# Altium schematic symbol library Cellar Watchdog.SchLib: 75 symbols (part 2 of 2)
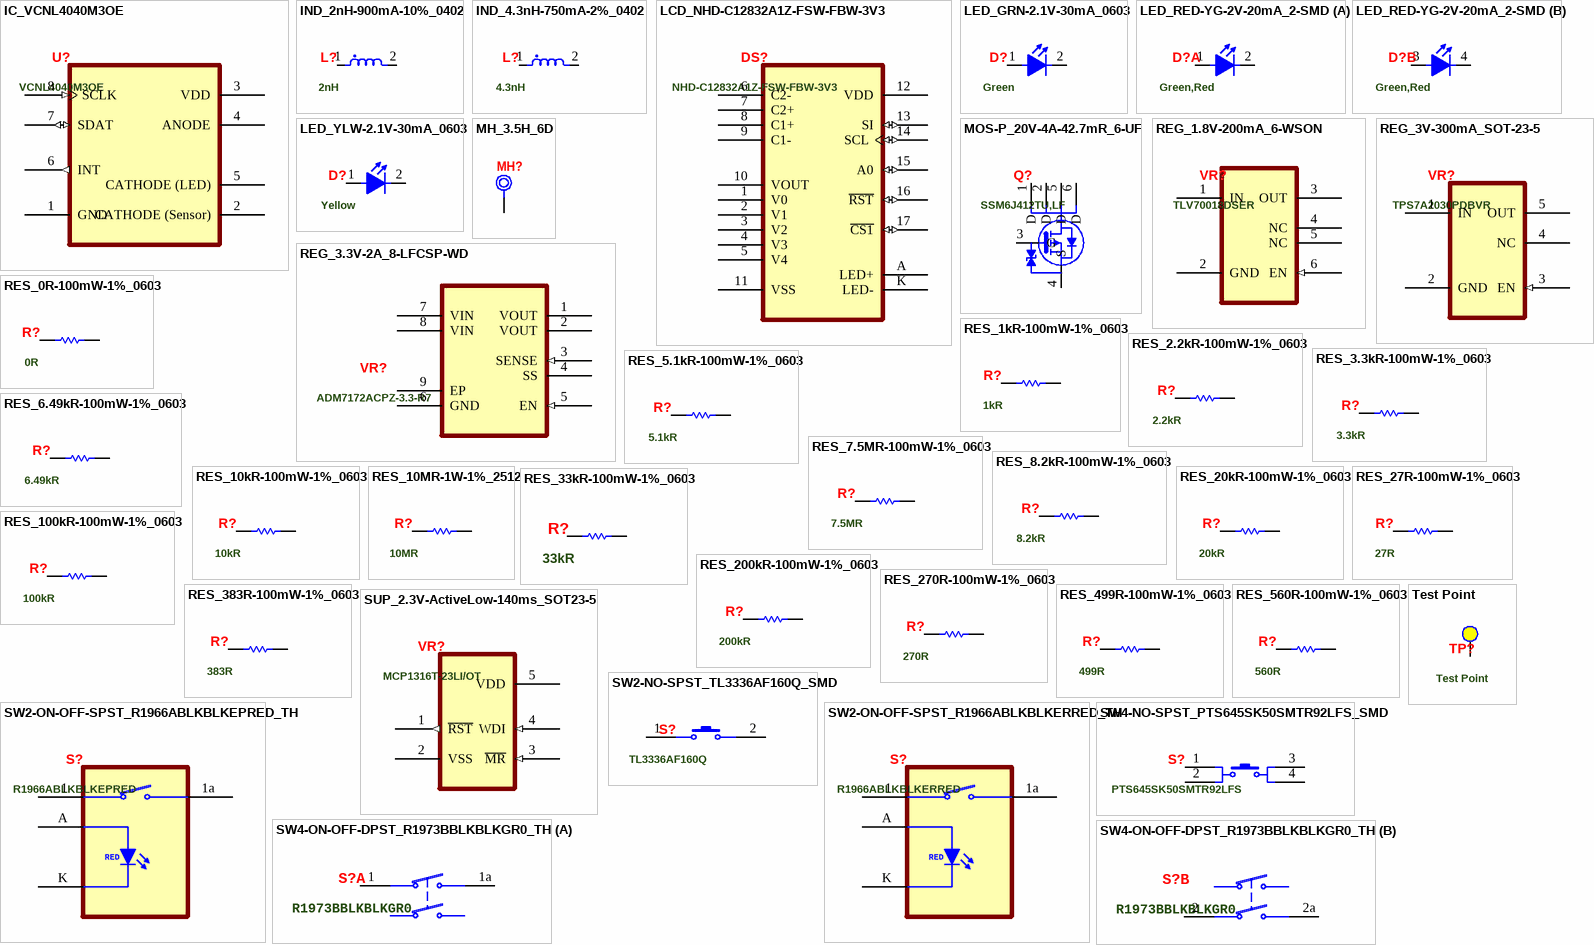
[diagram p3: symbols IC_VCNL4040M3OE to Test Point]

## LCD_NHD-C12832A1Z-FSW-FBW-3V3
designator DS?, comment NHD-C12832A1Z-FSW-FBW-3V3
Graphic LCD Display Module Transflective Black (White - Inverted) FSTN - Film Super-Twisted Nematic SPI 128 x 32; Manufacturer: Newhaven Display; Contrast Ratio: 6:1; Backlight Type: LED; Touchscreen: No; Resolution (height): 32pixel; Resolution (width): 128pixel; Supplier 1: Digi-Key; Manufacturer Part Number: NHD-C12832A1Z-FSW-FBW-3V3; RoHS: Yes; Category: LCD, OLED, Graphic Displays; Stock 1: 5801; Pricing 1: 1=12.78000, 5=12.01600, 10=11.24800, 50=10.60900, 100=10.09780, 250=9.58656, 500=9.20310 (USD); Mount: Through Hole; Number of Pins: 17; Min Operating Temperature: -20°C; Max Operating Temperature: 70°C; Background Color: Black; Packaging: Bulk; Package Quantity: 100; Interface: SPI; Supplier 2: Mouser; Supplier Part Number 2: 763-C12832A1ZFSWFBW3; Supplier Part Number 1: NHD-C12832A1Z-FSW-FBW-3V3-ND; ComponentLink2Description: Datasheet; ComponentLink2URL: C:\Users\Public\Documents\Altium\Projects\Cellar_Watchdog\Docs\LCD Display\NHD-C12832A1Z-FSW-FBW-3V3.pdf; ComponentLink3Description: Controller Datasheet; ComponentLink3URL: C:\Users\Public\Documents\Altium\Projects\Cellar_Watchdog\Docs\LCD Display\ST7565R.pdf
footprint LCD_NHD-C12832A1Z-FSW-FBW-3V3 (LCH Newhaven Display NHD-C12832A1Z-FSW-FBW-3V3)
pins: 1 V0 (power) "0.1uF - 1uF Capacitor to Vss", 2 V1 (power) "0.1uF - 1uF Capacitor to Vss", 3 V2 (power) "0.1uF - 1uF Capacitor to Vss", 4 V3 (power) "0.1uF - 1uF Capacitor to Vss", 5 V4 (power) "0.1uF - 1uF Capacitor to Vss", 6 C2- (power) "Connect 1uF - 2.2uF Capacitor to C2+ (pin 7)", 7 C2+ (power) "Connect 1uF - 2.2uF Capacitor to C2- (pin 6)", 8 C1+ (power) "Connect 1uF - 2.2uF Capacitor to C1- (pin 9)", 9 C1- (power) "Connect 1uF - 2.2uF Capacitor to C1+ (pin 8)", 10 VOUT (power) "Connect 1uF - 2.2uF Capacitor to Vss (pin11)", 11 VSS (power) "Ground", 12 VDD (power) "Supply Voltage for LCD and Logic (+3V)", 13 SI (io) "Serial Data", 14 SCL (io) "Serial Clock", 15 A0 (io) "Register Select. A0=0: Instruction, A0=1: Data", 16 ~{RST} (io) "Active Low Reset Signal", 17 ~{CS1} (io) "Active Low Chip Select Signal", A LED+ (power) "Backlight Anode (+3V)", K LED- (power) "Backlight Cathode (Ground)"

## LED_GRN-2.1V-30mA_0603
designator D?, comment Green
Green 571nm LED Indication - Discrete 2V 0603 (1608 Metric); Manufacturer: Vishay Lite-On; Manufacturer Part Number: LTST-C191KGKT; Lens Color: Colorless; Luminous Intensity: 35mcd; Viewing Angle: 130°; Test Current: 20mA; Lens Transparency: Clear; Wavelength: 574nm; Lens Style: Rectangular,Colorless; Forward Current: 30mA; Number of Elements: 1; Power Dissipation: 75mW; Reverse Voltage: 5V; Supplier 1: Digi-Key; RoHS: Yes; Category: Uncategorized; Stock 1: 3090195; Pricing 1: 1=0.26000, 10=0.14100, 100=0.06560, 500=0.06060, 1000=0.04747, 2000=0.04646 (USD); Mounting Technology: Surface Mount; Case/Package: 0603; Pins: 2; Color: Green; Case Code (Metric): 1608; Case Code (Imperial): 0603; Min Operating Temperature: -55°C; Max Operating Temperature: 85°C; Packaging: Tape and Reel; Package Quantity: 1; Forward Voltage: 2V; Dominant Wavelength: 571nm; Illumination Color: Green; Number of LEDs: 1; Power Rating: 75mW; Max Power Dissipation: 75mW; Length: 1.6mm; Width: 0.8mm; Height: 0.55mm; Depth: 0.8mm; Radiation Hardening: No; RoHS Compliant: Yes; Lead Free: Lead Free; ComponentLink1URL: C:\Users\Public\Documents\Altium\Projects\Cellar_Watchdog\Docs\LED\LTST-C191KSKT.PDF; ComponentLink1Description: Datasheet; Supplier 2: Mouser; Supplier Part Number 2: 859-LTST-C191KGKT; Supplier Part Number 1: 160-1446-6-ND
footprint LED_GRN_0603 (LED 0603 (1608 Metric) Green)
simulation model diode (Model Description)
pins: 1 A, 2 K

## LED_RED-YG-2V-20mA_2-SMD
designator D?, comment Green,Red
Green, Red 565nm Green, 635nm Red LED Indication - Discrete 2V Green, 2V Red 2-SMD, No Lead; Manufacturer: Dialight; Manufacturer Part Number: 5988510207F; Lens Color: Colorless,Clear; Luminous Intensity: 60mcd; Forward Current: 20mA; Viewing Angle: 160°; Forward Voltage: 1.8V; Lens Style: Domed,Round,Diffused,Colorless,Clear; Lens Transparency: Clear; Number of Elements: 2; Power Dissipation: 48mW; Reverse Voltage: 5V; Lens Size: 1mm; Supplier 1: Digi-Key; RoHS: Yes; Category: LEDs; Stock 1: 52868; Pricing 1: 1=0.54000, 10=0.33400, 100=0.19190, 1000=0.15017 (USD); Mounting Technology: Surface Mount; Case/Package: SMD/SMT; Pins: 4; Color: Green,Red; Min Operating Temperature: -40°C; Max Operating Temperature: 100°C; Packaging: Tape and Reel; Package Quantity: 3000; Series: 598; Illumination Color: Green,Red; Test Current: 20mA; Dominant Wavelength: 635nm; Wavelength: 635nm; Number of LEDs: 2; Length: 1mm; Width: 1.5mm; Height: 1mm; Depth: 3.2mm; Radiation Hardening: No; Reach SVHC Compliant: Yes; RoHS Compliant: Yes; Lead Free: Lead Free; ComponentLink1URL: C:\Users\Public\Documents\Altium\Projects\Cellar_Watchdog\Docs\LED\Dialight_CBI_data_598-biRA_Apr2018.pdf; ComponentLink1Description: Datasheet; Supplier 2: Mouser; Supplier Part Number 1: 350-2072-1-ND; Supplier Part Number 2: 645-598-8510-207F
footprint LED_5988510207F (LED Red - Yellow/Green Dialight Right Angle view)
part A pins: 1 A, 2 K
part B pins: 3 A, 4 K

## LED_YLW-2.1V-30mA_0603
designator D?, comment Yellow
Yellow 591nm LED Indication - Discrete 2.1V 0603 (1608 Metric); Manufacturer: Vishay Lite-On; Manufacturer Part Number: LTST-C191KSKT; Lens Color: Colorless; Viewing Angle: 130°; Lens Style: Diffused,Colorless,Rectangular,Clear; Luminous Intensity: 180mcd; Forward Current: 30mA; Forward Voltage: 2.4V; Power Rating: 75mW; Dominant Wavelength: 597nm; Test Current: 20mA; Lens Transparency: Clear; Number of Elements: 1; Wavelength: 588nm; Reverse Voltage: 5V; Supplier 1: Digi-Key; RoHS: Yes; Category: LEDs; Stock 1: 1434021; Pricing 1: 1=0.28000, 10=0.15000, 100=0.06990, 500=0.06450, 1000=0.05052, 2000=0.04945 (USD); Mounting Technology: Surface Mount; Case/Package: 0603; Pins: 2; Color: Yellow; Case Code (Metric): 1608; Case Code (Imperial): 0603; Min Operating Temperature: -55°C; Max Operating Temperature: 85°C; Package Quantity: 1; Packaging: Tape and Reel; Illumination Color: Yellow; Power Dissipation: 75mW; Number of LEDs: 1; Length: 1.6mm; Width: 0.8mm; Height: 0.55mm; Depth: 0.8mm; Radiation Hardening: No; RoHS Compliant: Yes; Lead Free: Lead Free; ComponentLink1URL: C:\Users\Public\Documents\Altium\Projects\Cellar_Watchdog\Docs\LED\LTST-C191KSKT.PDF; ComponentLink1Description: Datasheet; Supplier 2: Mouser; Supplier Part Number 1: 160-1448-1-ND; Supplier Part Number 2: 859-LTST-C191KSKT
footprint LED_YLW_0603 (LED 0603 (1608 Metric) Yellow)
simulation model diode (Model Description)
pins: 1 A, 2 K

## MH_3.5H_6D
designator MH?, comment Plated Through-Hole  (value not drawn)  (no BOM)
Hole Plated 3.5mm ID / 6mm OD
footprint PTH_3.5MM (Plated Through Hole 3.5mm Diam)
pins: 1

## MOS-P_20V-4A-42.7mR_6-UF
designator Q?, comment SSM6J412TU,LF
P-Channel 20 V 4A (Ta) 1W (Ta) Surface Mount UF6; Manufacturer: Toshiba; Supplier 1: Digi-Key; Manufacturer Part Number: SSM6J412TU,LF; RoHS: No; Category: Uncategorized; Stock 1: 8000; Pricing 1: 1=0.37000, 10=0.29600, 100=0.20160, 500=0.15120, 1000=0.11340 (USD); Supplier 2: Mouser; Supplier Part Number 1: SSM6J412TULFCT-ND; Supplier Part Number 2: 757-SSM6J412TU,LF; ComponentLink1Description: Datasheet; ComponentLink1URL: C:\Users\Public\Documents\Altium\Projects\Cellar_Watchdog\Docs\MOSFET\SSM6J412TU_datasheet_en_20140301.pdf
footprint MOS_SOTFL65P210X75-6N (6-SMD Package)
simulation model PMOSFET_Level1 (Model Description)
pins: 1 D, 2 D, 3 G, 4 S, 5 D, 6 D

## REG_1.8V-200mA_6-WSON
designator VR?, comment TLV70018DSER
Linear Voltage Regulator IC Positive Fixed 1 Output 200mA 6-WSON (1.5x1.5); Manufacturer: Texas Instruments; Output Voltage: 1.8V; Dropout Voltage: 175mV; Number of Outputs: 1; Max Power Dissipation: 555mW; Max Input Voltage: 5.5V; Min Input Voltage: 2V; Min Current Limit: 220mA; Output Voltage Accuracy: 2%; Quiescent Current: 30uA; Supplier 1: Digi-Key; Manufacturer Part Number: TLV70018DSER; RoHS: Yes; Category: Voltage Regulators - Linear; Stock 1: 24574; Pricing 1: 1=0.55000, 10=0.46900, 25=0.43760, 100=0.35020, 250=0.32520, 500=0.27518, 1000=0.21264 (USD); Case/Package: WFDFN; Number of Pins: 6; Min Operating Temperature: -40°C; Max Operating Temperature: 125°C; Packaging: Tape and Reel; Output Current: 200mA; Package Quantity: 3000; Max Output Current: 200mA; Number of Regulators: 1; Polarity: Positive; Power Dissipation: 555mW; Accuracy: 2%; Max Output Voltage: 1.8V; Min Output Voltage: 1.8V; Output Type: Fixed; Series: -; Lead Free: Lead Free; RoHS Compliant: Yes; ComponentLink2URL: C:\Users\Public\Documents\Altium\Projects\Cellar_Watchdog\Docs\Voltage Regulator\tlv700.pdf; ComponentLink2Description: Datasheet; Supplier 2: Mouser; Supplier Part Number 1: 296-39277-1-ND; Supplier Part Number 2: 595-TLV70018DSER
footprint REG_SON50P150X150X80-6N (6-WSON Package)
pins: 1 IN (power) "Input pin", 2 GND (power) "Ground", 3 OUT (power) "Regulated output voltage", 4 NC "No connection", 5 NC "No connection", 6 EN (in) "Enable pin"

## REG_3.3V-2A_8-LFCSP-WD
designator VR?, comment ADM7172ACPZ-3.3-R7
Linear Voltage Regulator IC Positive Fixed 1 Output 2A 8-LFCSP-WD (3x3); Manufacturer: Analog Devices; Output Voltage: 3.3V; Dropout Voltage: 172mV; Number of Regulators: 1; Min Current Limit: 2.4A; Quiescent Current: 700uA; Max Input Voltage: 6.5V; Min Input Voltage: 2.3V; Supplier 1: Digi-Key; Manufacturer Part Number: ADM7172ACPZ-3.3-R7; RoHS: Yes; Category: Voltage Regulators - Linear; Stock 1: 4322; Pricing 1: 1=6.80000, 10=6.10500, 25=5.77160, 100=5.00210, 250=4.74560, 500=4.25824 (USD); Mount: Surface Mount; Number of Pins: 8; Min Operating Temperature: -40°C; Max Operating Temperature: 125°C; Packaging: Tape and Reel; Output Current: 2A; Package Quantity: 1500; Polarity: Positive; Max Output Current: 2A; Number of Outputs: 1; Output Type: Fixed; Lead Free: Contains Lead; RoHS Compliant: Yes; ComponentLink2URL: C:\Users\Public\Documents\Altium\Projects\Cellar_Watchdog\Docs\Voltage Regulator\ADM7172.pdf; ComponentLink2Description: Datasheet; Supplier 2: Mouser; Supplier Part Number 1: 505-ADM7172ACPZ-3.3-R7CT-ND; Supplier Part Number 2: 584-ADM7172ACPZ3.3R7
footprint REG_SON50P300X300X80-9N (LFCSP-8 Package)
pins: 1 VOUT (power) "Regulated output voltage", 2 VOUT (power) "Regulated output voltage", 3 SENSE (in) "Sense input", 4 SS "Soft Start", 5 EN (in) "Regulator enable", 6 GND (power) "Ground", 7 VIN (power) "Regulator input supply", 8 VIN (power) "Regulator input supply", 9 EP (power) "Exposed Pad"

## REG_3V-300mA_SOT-23-5
designator VR?, comment TPS7A2030PDBVR
Linear Voltage Regulator IC Positive Fixed 1 Output 300mA SOT-23-5; Manufacturer: Texas Instruments; Supplier 1: Digi-Key; Manufacturer Part Number: TPS7A2030PDBVR; RoHS: Yes; Category: Voltage Regulators - Linear; Stock 1: 34133; Pricing 1: 1=0.49000, 10=0.41700, 25=0.38960, 100=0.31160, 250=0.28936, 500=0.24486, 1000=0.18921 (USD); RoHS Compliant: Yes; Supplier 2: Mouser; ComponentLink1Description: Datasheet; ComponentLink1URL: C:\Users\Public\Documents\Altium\Projects\Cellar_Watchdog\Docs\Voltage Regulator\tps7a20.pdf; Supplier Part Number 1: 296-TPS7A2030PDBVRCT-ND; Supplier Part Number 2: 595-TPS7A2030PDBVR
footprint REG_SOT95P280X145-5N (SOT-23-5 Package)
pins: 1 IN (power) "Input pin", 2 GND (power) "Ground", 3 EN (in) "Enable pin", 4 NC "No connection", 5 OUT (power) "Regulated output voltage"

## RES_0R-100mW-1%_0603
designator R?, comment 0R
0 Ohms Jumper Chip Resistor 0603 (1608 Metric) Moisture Resistant Thick Film; Manufacturer: Yageo; Manufacturer Part Number: RC0603FR-070RL; Power Rating: 100mW; Tolerance: 1%; Voltage Rating (DC): 50V; Temperature Coefficient: 200ppm/°C; Current Rating: 1A; Working Voltage: 75V; Supplier 1: Digi-Key; RoHS: Yes; Category: Chip SMD Resistors; Stock 1: 4158752; Pricing 1: 1=0.10000, 10=0.01800, 25=0.01320, 50=0.01000, 100=0.00730, 250=0.00560, 500=0.00448, 1000=0.00329 (USD); Case/Package: 0603; Number of Pins: 2; Contact Plating: Tin,Matte; Case Code (Metric): 1608; Case Code (Imperial): 0603; Min Operating Temperature: -55°C; Max Operating Temperature: 155°C; Resistance: 0R; Packaging: Tape and Reel; Resistor Type: Thick Film; Package Quantity: 5000; Voltage Rating: 50V; Number of Terminations: 2; Termination: SMD/SMT; Max Power Dissipation: 100mW; Features: Moisture Resistant; Series: RC; Construction: Rectangular; Resistance Tolerance: 1%; Technology: THICK FILM; Length: 1.6mm; Width: 0.8mm; Height: 0.45mm; Depth: 0.8mm; Radiation Hardening: No; Reach SVHC Compliant: Yes; Lead Free: Lead Free; RoHS Compliant: Yes; Military Standard: Not; ComponentLink7URL: C:\Users\Public\Documents\Altium\Projects\Cellar_Watchdog\Docs\Resistor\PYu-RC_Group_51_RoHS_L_12.pdf; ComponentLink7Description: Datasheet; Supplier 2: Mouser; Supplier Part Number 2: 603-RC0603FR-070RL; Supplier Part Number 1: 311-0.0HRCT-ND
simulation model R_Resistor_Default (Model Description)
footprint RES_0603 (Resistor SMD 0603 (Metric 1608))
pins: 1, 2

## RES_1kR-100mW-1%_0603
designator R?, comment 1kR
1 kOhms ±1% 0.1W, 1/10W Chip Resistor 0603 (1608 Metric) Moisture Resistant Thick Film; Manufacturer: Yageo; Manufacturer Part Number: RC0603FR-071KL; Temperature Coefficient: 100ppm/°C; Power Rating: 100mW; Voltage Rating: 50V; Supplier 1: Digi-Key; RoHS: Yes; Category: Chip SMD Resistors; Stock 1: 31324809; Pricing 1: 1=0.10000, 10=0.02100, 100=0.00850, 1000=0.00383, 2500=0.00332 (USD); Case/Package: 0603; Contact Plating: Tin,Matte; Case Code (Imperial): 0603; Case Code (Metric): 1608; Min Operating Temperature: -55°C; Max Operating Temperature: 155°C; Tolerance: 1%; Resistance: 1kR; Resistor Type: Thick Film; Packaging: Tape and Reel; Termination: SMD/SMT; Features: Moisture Resistant; Series: RC; Max Power Dissipation: 100mW; Number of Terminations: 2; Technology: THICK FILM; Resistance Tolerance: 1%; Construction: Rectangular; Length: 1.6mm; Height: 0.45mm; Depth: 0.8mm; Radiation Hardening: No; Reach SVHC Compliant: Yes; Lead Free: Lead Free; Military Standard: Not; RoHS Compliant: Yes; Supplier 2: Mouser; Supplier Part Number 2: 603-RC0603FR-071KL; Supplier Part Number 1: 311-1.00KHRCT-ND; ComponentLink1Description: Datasheet; ComponentLink1URL: C:\Users\Public\Documents\Altium\Projects\Cellar_Watchdog\Docs\Resistor\PYu-RC_Group_51_RoHS_L_12.pdf
simulation model R_Resistor_Default (Model Description)
footprint RES_0603 (Resistor SMD 0603 (Metric 1608))
pins: 1, 2

## RES_2.2kR-100mW-1%_0603
designator R?, comment 2.2kR
2.2 kOhms ±1% 0.1W, 1/10W Chip Resistor 0603 (1608 Metric) Moisture Resistant Thick Film; Manufacturer: Yageo; Manufacturer Part Number: RC0603FR-072K2L; Temperature Coefficient: 100ppm/°C; Power Rating: 100mW; Voltage Rating: 50V; Supplier 1: Digi-Key; RoHS: Yes; Category: Chip SMD Resistors; Stock 1: 2856981; Pricing 1: 1=0.10000, 10=0.02100, 100=0.00850, 1000=0.00383, 2500=0.00332 (USD); Case/Package: 0603; Case Code (Imperial): 0603; Case Code (Metric): 1608; Min Operating Temperature: -55°C; Max Operating Temperature: 155°C; Resistance: 2.2kR; Tolerance: 1%; Packaging: Tape and Reel; Resistor Type: Thick Film; Package Quantity: 1; Termination: SMD/SMT; Number of Terminations: 2; Max Power Dissipation: 100mW; Features: Moisture Resistant; Series: RC; Resistance Tolerance: 1%; Construction: Rectangular; Length: 1.6mm; Width: 0.031inch; Height: 0.022inch; Depth: 0.8mm; Lead Free: Lead Free; Military Standard: Not; RoHS Compliant: Yes; Supplier 2: Mouser; ComponentLink1Description: Datasheet; ComponentLink1URL: C:\Users\Public\Documents\Altium\Projects\Cellar_Watchdog\Docs\Resistor\PYu-RC_Group_51_RoHS_L_12.pdf; Supplier Part Number 2: 603-RC0603FR-072K2L; Supplier Part Number 1: 311-2.20KHRCT-ND
footprint RES_0603 (Resistor SMD 0603 (Metric 1608))
simulation model R_Resistor_Default (Model Description)
pins: 1, 2

## RES_3.3kR-100mW-1%_0603
designator R?, comment 3.3kR
3.3 kOhms ±1% 0.1W, 1/10W Chip Resistor 0603 (1608 Metric) Moisture Resistant Thick Film; Manufacturer: Yageo; Manufacturer Part Number: RC0603FR-073K3L; Temperature Coefficient: 100ppm/°C; Voltage Rating (DC): 50V; Power Rating: 100mW; Supplier 1: Digi-Key; RoHS: Yes; Category: Chip SMD Resistors; Stock 1: 3083433; Pricing 1: 1=0.10000, 10=0.02100, 100=0.00850, 1000=0.00383, 2500=0.00332 (USD); Case/Package: 0603; Pins: 2; Case Code (Imperial): 0603; Case Code (Metric): 1608; Min Operating Temperature: -55°C; Max Operating Temperature: 155°C; Resistance: 3.3kR; Tolerance: 1%; Packaging: Tape and Reel; Resistor Type: Thick Film; Voltage Rating: 50V; Package Quantity: 1; Termination: SMD/SMT; Number of Terminations: 2; Max Power Dissipation: 100mW; Features: Moisture Resistant; Series: RC; Resistance Tolerance: 1%; Construction: Rectangular; Length: 1.6mm; Width: 0.8mm; Height: 0.022inch; Depth: 0.8mm; Reach SVHC Compliant: Yes; Lead Free: Lead Free; Military Standard: Not; RoHS Compliant: Yes; Supplier 2: Mouser; ComponentLink1Description: Datasheet; ComponentLink1URL: C:\Users\Public\Documents\Altium\Projects\Cellar_Watchdog\Docs\Resistor\PYu-RC_Group_51_RoHS_L_12.pdf; Supplier Part Number 2: 603-RC0603FR-073K3L; Supplier Part Number 1: 311-3.30KHRCT-ND
footprint RES_0603 (Resistor SMD 0603 (Metric 1608))
simulation model R_Resistor_Default (Model Description)
pins: 1, 2

## RES_5.1kR-100mW-1%_0603
designator R?, comment 5.1kR
5.1 kOhms ±1% 0.1W, 1/10W Chip Resistor 0603 (1608 Metric) Moisture Resistant Thick Film; Manufacturer: Yageo; Manufacturer Part Number: RC0603FR-075K1L; Temperature Coefficient: 100ppm/°C; Max Power Dissipation: 100mW; Voltage Rating (DC): 50V; Supplier 1: Digi-Key; RoHS: Yes; Category: Chip SMD Resistors; Stock 1: 3842915; Pricing 1: 1=0.10000, 10=0.02100, 100=0.00850, 1000=0.00383, 2500=0.00332 (USD); Case/Package: 0603; Pins: 2; Case Code (Imperial): 0603; Case Code (Metric): 1608; Min Operating Temperature: -55°C; Max Operating Temperature: 155°C; Resistance: 5.1kR; Tolerance: 1%; Packaging: Tape and Reel; Number of Terminations: 2; Series: RC; Resistor Type: Thick Film; Power Rating: 100mW; Package Quantity: 1; Features: Moisture Resistant; Voltage Rating: 50V; Termination: SMD/SMT; Construction: Rectangular; Resistance Tolerance: 1%; Length: 0.063inch; Width: 0.031inch; Height: 0.022inch; Depth: 0.8mm; RoHS Compliant: Yes; Lead Free: Lead Free; Military Standard: Not; Reach SVHC Compliant: Yes; ComponentLink1URL: C:\Users\Public\Documents\Altium\Projects\Cellar_Watchdog\Docs\Resistor\PYu-RC_Group_51_RoHS_L_12.pdf; ComponentLink1Description: Datasheet; Supplier 2: Mouser; Supplier Part Number 1: 311-5.10KHRCT-ND; Supplier Part Number 2: 603-RC0603FR-075K1L
footprint RES_0603 (Resistor SMD 0603 (Metric 1608))
simulation model R_Resistor_Default (Model Description)
pins: 1, 2

## RES_6.49kR-100mW-1%_0603
designator R?, comment 6.49kR
6.49 kOhms ±1% 0.1W, 1/10W Chip Resistor 0603 (1608 Metric) Moisture Resistant Thick Film; Manufacturer: Yageo; Manufacturer Part Number: RC0603FR-076K49L; Power Rating: 100mW; Voltage Rating: 50V; Temperature Coefficient: 100ppm/°C; Supplier 1: Digi-Key; RoHS: Yes; Category: Chip SMD Resistors; Stock 1: 369365; Pricing 1: 1=0.10000, 10=0.02100, 100=0.00850, 1000=0.00383, 2500=0.00332 (USD); Mounting Technology: Surface Mount; Case/Package: 0603; Case Code (Imperial): 0603; Case Code (Metric): 1608; Min Operating Temperature: -55°C; Max Operating Temperature: 155°C; Tolerance: 1%; Packaging: Tape and Reel; Resistance: 6.49kR; Package Quantity: 1; Termination: SMD/SMT; Resistor Type: Thick Film; Number of Terminations: 2; Max Power Dissipation: 100mW; Voltage Rating (DC): 50V; Features: Moisture Resistant; Series: RC; Construction: Rectangular; Technology: THICK FILM; Length: 1.6mm; Width: 0.031inch; Height: 0.022inch; Depth: 0.8mm; RoHS Compliant: Yes; Military Standard: Not; Lead Free: Lead Free; ComponentLink1URL: C:\Users\Public\Documents\Altium\Projects\Cellar_Watchdog\Docs\Resistor\PYu-RC_Group_51_RoHS_L_12.pdf; ComponentLink1Description: Datasheet; Supplier 2: Mouser; Supplier Part Number 1: 311-6.49KHRCT-ND; Supplier Part Number 2: 603-RC0603FR-076K49L
simulation model R_Resistor_Default (Model Description)
footprint RES_0603 (Resistor SMD 0603 (Metric 1608))
pins: 1, 2

## RES_7.5MR-100mW-1%_0603
designator R?, comment 7.5MR
7.5 MOhms ±1% 0.1W, 1/10W Chip Resistor 0603 (1608 Metric) Moisture Resistant Thick Film; Manufacturer: Yageo; Manufacturer Part Number: RC0603FR-077M5L; Temperature Coefficient: 100ppm/°C; Power Rating: 100mW; Voltage Rating: 50V; Supplier 1: Digi-Key; RoHS: Yes; Category: Chip SMD Resistors; Stock 1: 22856; Pricing 1: 1=0.10000, 10=0.02100, 100=0.00850, 1000=0.00383, 2500=0.00332 (USD); Case/Package: 0603; Contact Plating: Tin,Matte; Case Code (Imperial): 0603; Case Code (Metric): 1608; Min Operating Temperature: -55°C; Max Operating Temperature: 155°C; Resistance: 7.5MR; Tolerance: 1%; Resistor Type: Thick Film; Packaging: Tape and Reel; Termination: SMD/SMT; Number of Terminations: 2; Max Power Dissipation: 100mW; Features: Moisture Resistant; Series: RC; Construction: Rectangular; Length: 1.6mm; Width: 0.8mm; Height: 0.022inch; Depth: 0.8mm; Military Standard: Not; Lead Free: Lead Free; RoHS Compliant: Yes; ComponentLink1URL: C:\Users\Public\Documents\Altium\Projects\Cellar_Watchdog\Docs\Resistor\PYu-RC_Group_51_RoHS_L_12.pdf; ComponentLink1Description: Datasheet; Supplier 2: Mouser; Supplier Part Number 2: 603-RC0603FR-077M5L; Supplier Part Number 1: 13-RC0603FR-077M5LCT-ND
footprint RES_0603 (Resistor SMD 0603 (Metric 1608))
simulation model R_Resistor_Default (Model Description)
pins: 1, 2

## RES_8.2kR-100mW-1%_0603
designator R?, comment 8.2kR
8.2 kOhms ±1% 0.1W, 1/10W Chip Resistor 0603 (1608 Metric) Moisture Resistant Thick Film; Manufacturer: Yageo; Manufacturer Part Number: RC0603FR-078K2L; Voltage Rating (DC): 50V; Temperature Coefficient: 100ppm/°C; Power Rating: 100mW; Supplier 1: Digi-Key; RoHS: Yes; Category: Chip SMD Resistors; Stock 1: 1009120; Pricing 1: 1=0.10000, 10=0.02100, 100=0.00850, 1000=0.00383, 2500=0.00332 (USD); Case/Package: 0603; Pins: 2; Case Code (Metric): 1608; Case Code (Imperial): 0603; Min Operating Temperature: -55°C; Max Operating Temperature: 155°C; Resistance: 8.2kR; Tolerance: 1%; Packaging: Tape and Reel; Resistor Type: Thick Film; Voltage Rating: 50V; Package Quantity: 1; Number of Terminations: 2; Termination: SMD/SMT; Max Power Dissipation: 100mW; Features: Moisture Resistant; Series: RC; Resistance Tolerance: 1%; Technology: THICK FILM; Construction: Rectangular; Length: 0.063inch; Width: 0.031inch; Height: 0.022inch; Depth: 0.8mm; Lead Pitch: 0.3mm; Reach SVHC Compliant: Yes; Lead Free: Lead Free; Military Standard: Not; RoHS Compliant: Yes; ComponentLink1URL: C:\Users\Public\Documents\Altium\Projects\Cellar_Watchdog\Docs\Resistor\PYu-RC_Group_51_RoHS_L_12.pdf; ComponentLink1Description: Datasheet; Supplier 2: Mouser; Supplier Part Number 2: 603-RC0603FR-078K2L; Supplier Part Number 1: 311-8.20KHRCT-ND
footprint RES_0603 (Resistor SMD 0603 (Metric 1608))
simulation model R_Resistor_Default (Model Description)
pins: 1, 2

## RES_10kR-100mW-1%_0603
designator R?, comment 10kR
10 kOhms ±1% 0.1W, 1/10W Chip Resistor 0603 (1608 Metric) Moisture Resistant Thick Film; Manufacturer: Yageo; Manufacturer Part Number: RC0603FR-0710KL; Temperature Coefficient: 100ppm/°C; Voltage Rating (DC): 50V; Power Rating: 100mW; Voltage Rating: 75V; Supplier 1: Digi-Key; RoHS: Yes; Category: Chip SMD Resistors; Stock 1: 43209622; Pricing 1: 1=0.10000, 10=0.02100, 100=0.00850, 1000=0.00383, 2500=0.00332 (USD); Case/Package: 0603; Pins: 2; Case Code (Imperial): 0603; Case Code (Metric): 1608; Weight: 7.1E-05oz; Min Operating Temperature: -55°C; Max Operating Temperature: 155°C; Tolerance: 1%; Resistor Type: Thick Film; Resistance: 10kR; Packaging: Tape and Reel; Termination: SMD/SMT; Features: Moisture Resistant; Series: RC; Max Power Dissipation: 100mW; Number of Terminations: 2; Resistance Tolerance: 1%; Construction: Rectangular; Length: 1.6mm; Width: 0.8mm; Height: 0.45mm; Depth: 0.8mm; Lead Pitch: 0.3mm; Reach SVHC Compliant: Yes; Lead Free: Lead Free; Military Standard: Not; RoHS Compliant: Yes; ComponentLink6URL: C:\Users\Public\Documents\Altium\Projects\Cellar_Watchdog\Docs\Resistor\PYu-RC_Group_51_RoHS_L_12.pdf; ComponentLink6Description: Datasheet; Supplier 2: Mouser; Supplier Part Number 1: 311-10.0KHRCT-ND; Supplier Part Number 2: 603-RC0603FR-0710KL
footprint RES_0603 (Resistor SMD 0603 (Metric 1608))
simulation model R_Resistor_Default (Model Description)
pins: 1, 2

## RES_10MR-1W-1%_2512
designator R?, comment 10MR
10 MOhms ±1% 1W Chip Resistor 2512 (6432 Metric) Moisture Resistant Thick Film; Manufacturer: Yageo; Manufacturer Part Number: RC2512FK-0710ML; Temperature Coefficient: 100ppm/°C; Supplier 1: Digi-Key; RoHS: Yes; Category: Chip SMD Resistors; Stock 1: 9688; Pricing 1: 1=0.41000, 10=0.29400, 100=0.11740, 1000=0.05786 (USD); Case/Package: 2512; Min Operating Temperature: -55°C; Max Operating Temperature: 155°C; Resistance: 10MR; Tolerance: 1%; Packaging: Tape and Reel; Resistor Type: Thick Film; Features: Moisture Resistant; Power Rating: 1W; Max Power Dissipation: 1W; Number of Terminations: 2; Length: 0.25inch; Width: 0.122inch; Height: 0.026inch; Depth: 3.1mm; Military Standard: Not; ComponentLink1URL: C:\Users\Public\Documents\Altium\Projects\Cellar_Watchdog\Docs\Resistor\PYu-RC_Group_51_RoHS_L_12.pdf; ComponentLink1Description: Datasheet; Supplier 2: Mouser; Supplier Part Number 1: 13-RC2512FK-0710MLCT-ND; Supplier Part Number 2: 603-RC2512FK-0710ML
simulation model R_Resistor_Default (Model Description)
footprint RES_2512 (Resistor SMD 2512 (Metric 6332))
pins: 1, 2

## RES_20kR-100mW-1%_0603
designator R?, comment 20kR
20 kOhms ±1% 0.1W, 1/10W Chip Resistor 0603 (1608 Metric) Moisture Resistant Thick Film; Manufacturer: Yageo; Manufacturer Part Number: RC0603FR-0720KL; Temperature Coefficient: 100ppm/°C; Voltage Rating (DC): 50V; Power Rating: 100mW; Supplier 1: Digi-Key; RoHS: Yes; Category: Chip SMD Resistors; Stock 1: 8523666; Pricing 1: 1=0.10000, 10=0.02100, 100=0.00850, 1000=0.00383, 2500=0.00332 (USD); Case/Package: 0603; Number of Pins: 2; Case Code (Imperial): 0603; Case Code (Metric): 1608; Size Code: 0603; Min Operating Temperature: -55°C; Max Operating Temperature: 155°C; Tolerance: 1%; Packaging: Tape and Reel; Resistance: 20kR; Resistor Type: Thick Film; Voltage Rating: 50V; Package Quantity: 1; Termination: SMD/SMT; Number of Terminations: 2; Max Power Dissipation: 100mW; Features: Moisture Resistant; Series: RC; Technology: THICK FILM; Construction: Rectangular; Resistance Tolerance: 1%; Length: 0.063inch; Width: 0.031inch; Height: 0.022inch; Depth: 0.8mm; Lead Free: Lead Free; RoHS Compliant: Yes; Reach SVHC Compliant: Yes; Military Standard: Not; ComponentLink1URL: C:\Users\Public\Documents\Altium\Projects\Cellar_Watchdog\Docs\Resistor\PYu-RC_Group_51_RoHS_L_12.pdf; ComponentLink1Description: Datasheet; Supplier 2: Mouser; Supplier Part Number 1: 311-20.0KHRCT-ND; Supplier Part Number 2: 603-RC0603FR-0720KL
footprint RES_0603 (Resistor SMD 0603 (Metric 1608))
simulation model R_Resistor_Default (Model Description)
pins: 1, 2

## RES_27R-100mW-1%_0603
designator R?, comment 27R
27 Ohms ±1% 0.1W, 1/10W Chip Resistor 0603 (1608 Metric) Moisture Resistant Thick Film; Manufacturer: Yageo; Manufacturer Part Number: RC0603FR-0727RL; Voltage Rating (DC): 50V; Temperature Coefficient: 100ppm/°C; Power Rating: 100mW; Supplier 1: Digi-Key; RoHS: Yes; Category: Chip SMD Resistors; Stock 1: 815867; Pricing 1: 1=0.10000, 10=0.02100, 100=0.00850, 1000=0.00383, 2500=0.00332 (USD); Case/Package: 0603; Pins: 2; Case Code (Metric): 1608; Case Code (Imperial): 0603; Min Operating Temperature: -55°C; Max Operating Temperature: 155°C; Resistance: 27R; Tolerance: 1%; Packaging: Tape and Reel; Resistor Type: Thick Film; Number of Terminations: 2; Voltage Rating: 50V; Package Quantity: 1; Termination: SMD/SMT; Max Power Dissipation: 100mW; Features: Moisture Resistant; Series: RC; Resistance Tolerance: 1%; Length: 0.063inch; Width: 0.8mm; Height: 0.022inch; Depth: 0.8mm; Lead Free: Lead Free; RoHS Compliant: Yes; Supplier 2: Mouser; Supplier Part Number 1: 311-27.0HRCT-ND; Supplier Part Number 2: 603-RC0603FR-0727RL; ComponentLink1Description: Datasheet; ComponentLink1URL: C:\Users\Public\Documents\Altium\Projects\Cellar_Watchdog\Docs\Resistor\PYu-RC_Group_51_RoHS_L_12.pdf
footprint RES_0603 (Resistor SMD 0603 (Metric 1608))
simulation model R_Resistor_Default (Model Description)
pins: 1, 2

## RES_33kR-100mW-1%_0603
designator R?, comment 33kR
33 kOhms ±1% 0.1W, 1/10W Chip Resistor 0603 (1608 Metric) Moisture Resistant Thick Film; Manufacturer: Yageo; Manufacturer Part Number: RC0603FR-0733KL; Voltage Rating (DC): 50V; Temperature Coefficient: 100ppm/°C; Power Rating: 100mW; Supplier 1: Digi-Key; RoHS: Yes; Category: Chip SMD Resistors; Stock 1: 663847; Pricing 1: 1=0.10000, 10=0.01900, 100=0.00770, 1000=0.00345, 2500=0.00300 (USD); Case/Package: 0603; Pins: 2; Case Code (Imperial): 0603; Case Code (Metric): 1608; Min Operating Temperature: -55°C; Max Operating Temperature: 155°C; Resistance: 33kR; Tolerance: 1%; Packaging: Tape and Reel; Resistor Type: Thick Film; Voltage Rating: 50V; Package Quantity: 1; Termination: SMD/SMT; Number of Terminations: 2; Max Power Dissipation: 100mW; Features: Moisture Resistant; Series: RC; Resistance Tolerance: 1%; Construction: Rectangular; Length: 0.063inch; Width: 0.031inch; Height: 0.022inch; Depth: 0.8mm; Reach SVHC Compliant: Yes; Lead Free: Lead Free; Military Standard: Not; RoHS Compliant: Yes; ComponentLink1URL: C:\Users\Public\Documents\Altium\Projects\Cellar_Watchdog\Docs\Resistor\PYu-RC_Group_51_RoHS_L_12.pdf; ComponentLink1Description: Datasheet; Supplier 2: Mouser; Supplier Part Number 1: 311-33.0KHRCT-ND; Supplier Part Number 2: 603-RC0603FR-0733KL
footprint RES_0603 (Resistor SMD 0603 (Metric 1608))
simulation model R_Resistor_Default (Model Description)
pins: 1, 2

## RES_100kR-100mW-1%_0603
designator R?, comment 100kR
100 kOhms ±1% 0.1W, 1/10W Chip Resistor 0603 (1608 Metric) Moisture Resistant Thick Film; Manufacturer: Yageo; Manufacturer Part Number: RC0603FR-07100KL; Temperature Coefficient: 100ppm/°C; Voltage Rating (DC): 50V; Power Rating: 100mW; Working Voltage: 75V; Supplier 1: Digi-Key; RoHS: Yes; Category: Chip SMD Resistors; Stock 1: 13562665; Pricing 1: 1=0.10000, 10=0.02100, 100=0.00850, 1000=0.00383, 2500=0.00332 (USD); Case/Package: 0603; Pins: 2; Case Code (Imperial): 0603; Case Code (Metric): 1608; Min Operating Temperature: -55°C; Max Operating Temperature: 155°C; Tolerance: 1%; Resistor Type: Thick Film; Resistance: 100kR; Packaging: Tape and Reel; Voltage Rating: 50V; Termination: SMD/SMT; Number of Terminations: 2; Features: Moisture Resistant; Series: RC; Max Power Dissipation: 100mW; Resistance Tolerance: 1%; Construction: Rectangular; Technology: THICK FILM; Length: 1.6mm; Width: 0.8mm; Height: 0.45mm; Depth: 0.8mm; Reach SVHC Compliant: Yes; Lead Free: Lead Free; Military Standard: Not; RoHS Compliant: Yes; Supplier 2: Mouser; Supplier Part Number 2: 603-RC0603FR-07100KL; Supplier Part Number 1: 311-100KHRCT-ND; ComponentLink1Description: Datasheet; ComponentLink1URL: C:\Users\Public\Documents\Altium\Projects\Cellar_Watchdog\Docs\Resistor\PYu-RC_Group_51_RoHS_L_12.pdf
simulation model R_Resistor_Default (Model Description)
footprint RES_0603 (Resistor SMD 0603 (Metric 1608))
pins: 1, 2

## RES_200kR-100mW-1%_0603
designator R?, comment 200kR
200 kOhms ±1% 0.1W, 1/10W Chip Resistor 0603 (1608 Metric) Moisture Resistant Thick Film; Manufacturer: Yageo; Manufacturer Part Number: RC0603FR-07200KL; Temperature Coefficient: 100ppm/°C; Voltage Rating (DC): 50V; Power Rating: 100mW; Supplier 1: Digi-Key; RoHS: Yes; Category: Chip SMD Resistors; Stock 1: 2519717; Pricing 1: 1=0.10000, 10=0.02100, 100=0.00850, 1000=0.00383, 2500=0.00332 (USD); Case/Package: 0603; Pins: 2; Case Code (Metric): 1608; Case Code (Imperial): 0603; Min Operating Temperature: -55°C; Max Operating Temperature: 155°C; Resistance: 200kR; Tolerance: 1%; Packaging: Tape and Reel; Resistor Type: Thick Film; Voltage Rating: 50V; Package Quantity: 1; Number of Terminations: 2; Termination: SMD/SMT; Max Power Dissipation: 100mW; Features: Moisture Resistant; Series: RC; Resistance Tolerance: 1%; Construction: Rectangular; Length: 0.063inch; Width: 0.031inch; Height: 0.022inch; Depth: 0.8mm; Lead Free: Lead Free; Reach SVHC Compliant: Yes; Military Standard: Not; RoHS Compliant: Yes; ComponentLink1URL: C:\Users\Public\Documents\Altium\Projects\Cellar_Watchdog\Docs\Resistor\PYu-RC_Group_51_RoHS_L_12.pdf; ComponentLink1Description: Datasheet; Supplier 2: Mouser; Supplier Part Number 1: 311-200KHRCT-ND; Supplier Part Number 2: 603-RC0603FR-07200KL
footprint RES_0603 (Resistor SMD 0603 (Metric 1608))
simulation model R_Resistor_Default (Model Description)
pins: 1, 2

## RES_270R-100mW-1%_0603
designator R?, comment 270R
270 Ohms ±1% 0.1W, 1/10W Chip Resistor 0603 (1608 Metric) Moisture Resistant Thick Film; Manufacturer: Yageo; Manufacturer Part Number: RC0603FR-07270RL; Power Rating: 100mW; Voltage Rating: 50V; Temperature Coefficient: 100ppm/°C; Supplier 1: Digi-Key; RoHS: Yes; Category: Chip SMD Resistors; Stock 1: 697012; Pricing 1: 1=0.10000, 10=0.02100, 100=0.00850, 1000=0.00383, 2500=0.00332 (USD); Case/Package: 0603; Pins: 2; Case Code (Imperial): 0603; Case Code (Metric): 1608; Min Operating Temperature: -55°C; Max Operating Temperature: 155°C; Resistance: 270R; Tolerance: 1%; Packaging: Tape and Reel; Voltage Rating (DC): 50V; Package Quantity: 5000; Termination: SMD/SMT; Resistor Type: Thick Film; Number of Terminations: 2; Max Power Dissipation: 100mW; Features: Moisture Resistant; Series: RC; Resistance Tolerance: 1%; Technology: THICK FILM; Construction: Rectangular; Length: 0.063inch; Width: 0.031inch; Height: 0.022inch; Depth: 0.8mm; RoHS Compliant: Yes; Military Standard: Not; Lead Free: Lead Free; ComponentLink1URL: C:\Users\Public\Documents\Altium\Projects\Cellar_Watchdog\Docs\Resistor\PYu-RC_Group_51_RoHS_L_12.pdf; ComponentLink1Description: Datasheet; Supplier 2: Mouser; Supplier Part Number 2: 603-RC0603FR-07270RL; Supplier Part Number 1: 311-270HRCT-ND
footprint RES_0603 (Resistor SMD 0603 (Metric 1608))
simulation model R_Resistor_Default (Model Description)
pins: 1, 2

## RES_383R-100mW-1%_0603
designator R?, comment 383R
383 Ohms ±1% 0.1W, 1/10W Chip Resistor 0603 (1608 Metric) Moisture Resistant Thick Film; Manufacturer: Yageo; Manufacturer Part Number: RC0603FR-07383RL; Power Rating: 100mW; Voltage Rating: 50V; Temperature Coefficient: 100ppm/°C; Supplier 1: Digi-Key; RoHS: Yes; Category: Chip SMD Resistors; Stock 1: 398710; Pricing 1: 1=0.10000, 10=0.02100, 100=0.00850, 1000=0.00383, 2500=0.00332 (USD); Case/Package: 0603; Case Code (Imperial): 0603; Case Code (Metric): 1608; Min Operating Temperature: -55°C; Max Operating Temperature: 155°C; Packaging: Tape and Reel; Resistance: 383R; Tolerance: 1%; Package Quantity: 1; Termination: SMD/SMT; Resistor Type: Thick Film; Number of Terminations: 2; Max Power Dissipation: 100mW; Voltage Rating (DC): 50V; Features: Moisture Resistant; Series: RC; Construction: Rectangular; Length: 1.6mm; Width: 0.8mm; Height: 0.022inch; Depth: 0.8mm; Military Standard: Not; Lead Free: Lead Free; RoHS Compliant: Yes; ComponentLink1URL: C:\Users\Public\Documents\Altium\Projects\Cellar_Watchdog\Docs\Resistor\PYu-RC_Group_51_RoHS_L_12.pdf; ComponentLink1Description: Datasheet; Supplier 2: Mouser; Supplier Part Number 2: 603-RC0603FR-07383RL; Supplier Part Number 1: 311-383HRCT-ND
simulation model R_Resistor_Default (Model Description)
footprint RES_0603 (Resistor SMD 0603 (Metric 1608))
pins: 1, 2

## RES_499R-100mW-1%_0603
designator R?, comment 499R
499 Ohms ±1% 0.1W, 1/10W Chip Resistor 0603 (1608 Metric) Moisture Resistant Thick Film; Manufacturer: Yageo; Manufacturer Part Number: RC0603FR-07499RL; Temperature Coefficient: 100ppm/°C; Power Rating: 100mW; Voltage Rating: 50V; Supplier 1: Digi-Key; RoHS: Yes; Category: Chip SMD Resistors; Stock 1: 1801383; Pricing 1: 1=0.10000, 10=0.02100, 100=0.00850, 1000=0.00383, 2500=0.00332 (USD); Mounting Technology: Surface Mount; Case/Package: 0603; Contact Plating: Tin,Matte; Case Code (Metric): 1608; Case Code (Imperial): 0603; Min Operating Temperature: -55°C; Max Operating Temperature: 155°C; Resistance: 499R; Tolerance: 1%; Resistor Type: Thick Film; Package Quantity: 1; Packaging: Tape and Reel; Number of Terminations: 2; Termination: SMD/SMT; Max Power Dissipation: 100mW; Voltage Rating (DC): 50V; Features: Moisture Resistant; Series: RC; Construction: Rectangular; Technology: THICK FILM; Length: 1.6mm; Width: 0.031inch; Height: 0.45mm; Depth: 0.8mm; Radiation Hardening: No; Military Standard: Not; Lead Free: Lead Free; RoHS Compliant: Yes; ComponentLink1URL: C:\Users\Public\Documents\Altium\Projects\Cellar_Watchdog\Docs\Resistor\PYu-RC_Group_51_RoHS_L_12.pdf; ComponentLink1Description: Datasheet; Supplier 2: Mouser; Supplier Part Number 1: 311-499HRCT-ND; Supplier Part Number 2: 603-RC0603FR-07499RL
simulation model R_Resistor_Default (Model Description)
footprint RES_0603 (Resistor SMD 0603 (Metric 1608))
pins: 1, 2

## RES_560R-100mW-1%_0603
designator R?, comment 560R
560 Ohms ±1% 0.1W, 1/10W Chip Resistor 0603 (1608 Metric) Moisture Resistant Thick Film; Manufacturer: Yageo; Manufacturer Part Number: RC0603FR-07560RL; Voltage Rating (DC): 50V; Temperature Coefficient: 100ppm/°C; Power Rating: 100mW; Voltage Rating: 75V; Supplier 1: Digi-Key; RoHS: Yes; Category: Chip SMD Resistors; Stock 1: 1325599; Pricing 1: 1=0.10000, 10=0.02100, 100=0.00850, 1000=0.00383, 2500=0.00332 (USD); Case/Package: 0603; Pins: 2; Case Code (Imperial): 0603; Case Code (Metric): 1608; Weight: 7.1E-05oz; Min Operating Temperature: -55°C; Max Operating Temperature: 155°C; Packaging: Tape and Reel; Resistance: 560R; Tolerance: 1%; Resistor Type: Thick Film; Package Quantity: 1; Termination: SMD/SMT; Number of Terminations: 2; Max Power Dissipation: 100mW; Working Voltage: 75V; Features: Moisture Resistant; Series: RC; Construction: Rectangular; Resistance Tolerance: 1%; Technology: THICK FILM; Length: 1.6mm; Width: 0.8mm; Height: 0.45mm; Depth: 0.8mm; Reach SVHC Compliant: Yes; Lead Free: Lead Free; Military Standard: Not; RoHS Compliant: Yes; ComponentLink1URL: C:\Users\Public\Documents\Altium\Projects\Cellar_Watchdog\Docs\Resistor\PYu-RC_Group_51_RoHS_L_12.pdf; ComponentLink1Description: Datasheet; Supplier 2: Mouser; Supplier Part Number 2: 603-RC0603FR-07560RL; Supplier Part Number 1: 311-560HRCT-ND
simulation model R_Resistor_Default (Model Description)
footprint RES_0603 (Resistor SMD 0603 (Metric 1608))
pins: 1, 2

## SUP_2.3V-ActiveLow-140ms_SOT23-5
designator VR?, comment MCP1316T-23LI/OT
Supervisor Push-Pull, Totem Pole 1 Channel SOT-23-5; Manufacturer: Microchip; Reset: Active Low; Number of Voltages Monitored: 1; Reset Timeout: 140ms; Threshold Voltage: 2.3V; Supplier 1: Digi-Key; Manufacturer Part Number: MCP1316T-23LI/OT; RoHS: Yes; Category: Voltage Supervisors; Stock 1: 1812; Pricing 1: 1=0.86000, 25=0.76480 (USD); Mounting Technology: Surface Mount; Case/Package: SOT-23-5; Min Operating Temperature: -40°C; Max Operating Temperature: 85°C; Type: Simple Reset/Power-On Reset; Packaging: Cut Tape; RoHS Compliant: Yes; ComponentLink1URL: C:\Users\Public\Documents\Altium\Projects\Cellar_Watchdog\Docs\IC Supervisor\MCP131X-2X-Voltage-Supervisor-DS20001985E.pdf; ComponentLink1Description: Datasheet; Supplier 2: Mouser; Supplier Part Number 1: MCP1316T-23LI/OTCT-ND; Supplier Part Number 2: 579-MCP1316T-23LI/OT
footprint REG_SOT95P280X145-5N (SOT-23-5 Package)
pins: 1 ~{RST} (out) "Reset", 2 VSS (power) "Ground", 3 ~{MR} (in) "Manual Reset input for a reset switch", 4 WDI (in) "Watchdog Timer input", 5 VDD (power) "Positive supply for device"

## SW2-NO-SPST_TL3336AF160Q_SMD
designator S?, comment TL3336AF160Q
Tactile Switch SPST-NO Side Actuated Surface Mount, Right Angle; Manufacturer: E-Switch; Supplier 1: Digi-Key; Manufacturer Part Number: TL3336AF160Q; RoHS: No; Category: Tactile Switches; Stock 1: 16874; Pricing 1: 1=0.49000, 10=0.47200, 25=0.45440, 100=0.39310, 250=0.35820 (USD); Supplier 2: Mouser; Supplier Part Number 1: 141-TL3336AF160QCT-ND; Supplier Part Number 2: 612-TL3336AF160Q; ComponentLink1Description: Datasheet; ComponentLink1URL: C:\Users\Public\Documents\Altium\Projects\Cellar_Watchdog\Docs\Switch\TL3336.pdf
footprint SW-TACTILE-SPST_TL3336 (Tactile Switch SPST-NO Side Actuated Surface Mount, Right Angle)
pins: 1, 2

## SW2-ON-OFF-SPST_R1966ABLKBLKEPRED_TH
designator S?, comment R1966ABLKBLKEPRED
Rocker Switch SPST 15A (AC) 125 V Panel Mount, Snap-In; Manufacturer: E-Switch; Mechanical Life: 30000Cycles; Illumination Type: LED; Switch Function: On-Off; Electrical Life: 10000Cycles; Voltage Rating (AC): 125V; Supplier 1: Digi-Key; Manufacturer Part Number: R1966ABLKBLKEPRED; RoHS: Yes; Category: Rocker Switches; Stock 1: 1554; Pricing 1: 1=2.49000, 10=2.23800, 25=2.11560, 50=2.02380, 100=1.92160, 250=1.83980, 500=1.70694, 1000=1.62517 (USD); Mount: Panel,Snap in; Contact Material: Silver; Min Operating Temperature: -30°C; Max Operating Temperature: 65°C; Current Rating: 15A; Throw Configuration: SPST; Termination: PC Pin; Package Quantity: 1; Packaging: Bulk; Lead Free: Lead Free; ComponentLink1URL: C:\Users\Public\Documents\Altium\Projects\Cellar_Watchdog\Docs\Switch\R1966.pdf; ComponentLink1Description: Datasheet; ComponentLink2URL: C:\Users\Public\Documents\Altium\Projects\Cellar_Watchdog\Docs\Switch\M300101.pdf; ComponentLink2Description: Drawing; Supplier 2: Mouser; Supplier Part Number 1: R1966ABLKBLKEPRED-ND; Supplier Part Number 2: 612-R1966ABLKBLKEPRE
footprint SW_ROCKER-SPST_R1966ABLKBLKEPRED (Rocker Switch SPST Illuminated E-Switch R1966ABLKBLKEPRED)
pins: 1 (power), 1a (power), A Anode, K Cathode
text: RED

## SW2-ON-OFF-SPST_R1966ABLKBLKERRED_TH
designator S?, comment R1966ABLKBLKERRED
Rocker Switch SPST 15A (AC) 125 V Panel Mount, Snap-In, Right Angle; Manufacturer: E-Switch; Mechanical Life: 30000Cycles; Voltage Rating (AC): 125V; Electrical Life: 10000Cycles; Illumination Type: LED,Illuminated; Switch Function: On-Off; Illumination Color: Red; Supplier 1: Digi-Key; Manufacturer Part Number: R1966ABLKBLKERRED; RoHS: Yes; Category: Rocker Switches; Stock 1: 13; Pricing 1: 1=2.70000, 10=2.42400, 25=2.29160, 50=2.19180, 100=2.08110, 250=1.99252, 500=1.84862, 1000=1.76007 (USD); Mounting Technology: Panel,Snap in; Contact Plating: Silver; Min Operating Temperature: -30°C; Max Operating Temperature: 65°C; Package Quantity: 1; Current Rating: 15A; Packaging: Bulk; Termination: PC Pin; Throw Configuration: SPST; Actuator Type: Rocker; Orientation: Right Angle; Lead Free: Lead Free; ComponentLink1URL: C:\Users\Public\Documents\Altium\Projects\Cellar_Watchdog\Docs\Switch\R1966.pdf; ComponentLink1Description: Datasheet; ComponentLink2Description: Drawing; ComponentLink2URL: C:\Users\Public\Documents\Altium\Projects\Cellar_Watchdog\Docs\Switch\M301221.pdf; Supplier Part Number 1: EG2577-ND
footprint SW_ROCKER-SPST_R1966ABLKBLKERRED (Rocker Switch SPST Illuminated E-Switch R1966ABLKBLKERRED)
pins: 1 (power), 1a (power), A Anode, K Cathode
text: RED

## SW4-NO-SPST_PTS645SK50SMTR92LFS_SMD
designator S?, comment PTS645SK50SMTR92LFS
Tactile Switch SPST-NO Top Actuated Surface Mount; Manufacturer: ITT C&K; Mechanical Life: 100000Cycles; Actuator Material: Nylon,Polyamide,PA66; Operating Force: 260gf; Throw Configuration: SPST; Max Voltage Rating (DC): 12V; Current Rating: 50mA; Contact Resistance: 100mR; Illumination Type: Non-Illuminated,Illuminated; Switch Function: Off-Mom; Actuator Type: Standard; Actuator Length: 1.55mm; Supplier 1: Digi-Key; Manufacturer Part Number: PTS645SK50SMTR92LFS; RoHS: Yes; Category: Tactile Switches; Stock 1: 267139; Pricing 1: 1=0.26000, 10=0.25100, 25=0.23840, 100=0.21580, 250=0.19676, 500=0.18288 (USD); Mount: Surface Mount; Case/Package: SMD/SMT; Contact Plating: Silver; Contact Material: Bronze; Color: Red; Min Operating Temperature: -20°C; Max Operating Temperature: 60°C; Packaging: Tape and Reel; Termination: Gull Wing; Voltage Rating (DC): 12V; Package Quantity: 1; Max Current Rating: 50mA; Orientation: Straight; Series: PTS645; Length: 6mm; Depth: 9mm; REACH SVHC: No SVHC; Lead Free: Lead Free; RoHS Compliant: Yes; ComponentLink1URL: C:\Users\Public\Documents\Altium\Projects\Cellar_Watchdog\Docs\Switch\pts645.pdf; ComponentLink1Description: Datasheet; Supplier 2: Mouser; Supplier Part Number 1: CKN9087CT-ND; Supplier Part Number 2: 611-PTS645SK50SMTR92
footprint SW_TACTILE-SPST_PTS645SK50SMTR92LFS_SMD (Tactile Switch SPST-NO Top Actuated Surface Mount)
pins: 1, 2, 3, 4

## SW4-ON-OFF-DPST_R1973BBLKBLKGR0_TH
designator S?, comment R1973BBLKBLKGR0
Rocker Switch DPST 9A (AC) 125 V Panel Mount, Snap-In, Right Angle; Manufacturer: E-Switch; Mechanical Life: 30000Cycles; Voltage Rating (AC): 125V; Electrical Life: 10000Cycles; Switch Function: On-Off; Illumination Type: Illuminated; Manufacturer Part Number: R1973BBLKBLKGR0; RoHS: No; Category: Rocker Switches; Stock 1: 214; Pricing 1: 1=3.07000, 10=2.75300, 25=2.60040, 50=2.48640, 100=2.35950, 250=2.25804, 500=2.08044, 1000=1.97895 (USD); Mounting Technology: Panel,Snap in; Contact Plating: Silver; Min Operating Temperature: -30°C; Max Operating Temperature: 55°C; Package Quantity: 1; Current Rating: 9A; Packaging: Bulk; Termination: PC Pin; Throw Configuration: DPST; Series: R1973; Actuator Type: Rocker; RoHS Compliant: No; ComponentLink1URL: C:\Users\Public\Documents\Altium\Projects\Cellar_Watchdog\Docs\Switch\R1973.pdf; ComponentLink1Description: Datasheet; ComponentLink2Description: Drawing; ComponentLink2URL: C:\Users\Public\Documents\Altium\Projects\Cellar_Watchdog\Docs\Switch\M400001.pdf; Supplier 1: Digi-Key; Supplier Part Number 1: R1973BBLKBLKGR0-ND
footprint SW_ROCKER-DPST_R1973BBLKBLKGR0 (Rocker Switch DPST E-Switch R1973BBLKBLKGR0)
simulation model DPST_SWITCH (Model Description)
part A pins: 1 (power), 1a (power)
part B pins: 2 (power), 2a (power)

## Test Point
designator TP?  (no BOM)
PCB Test Point; Value: Test Point
footprint TEST POINT HOLE (PCB Test Point)
footprint TEST POINT PAD (PCB Test Point)
pins: TP

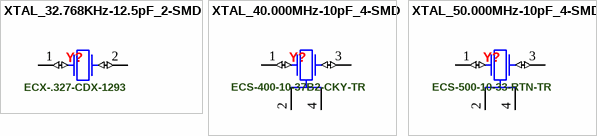
[diagram p2: symbols XTAL_32.768KHz-12.5pF_2-SMD to XTAL_50.000MHz-10pF_4-SMD]

## XTAL_32.768KHz-12.5pF_2-SMD
designator Y?, comment ECX-.327-CDX-1293
32.768 kHz ±5ppm Crystal 12.5pF 70 kOhms 2-SMD, No Lead; Manufacturer: ECS International; ESR (Equivalent Series Resistance): 70kR; Supplier 1: Digi-Key; Manufacturer Part Number: ECX-.327-CDX-1293; RoHS: Yes; Category: Crystals; Stock 1: 208118; Pricing 1: 1=0.81000, 10=0.72000, 50=0.67320, 100=0.59490, 500=0.56358, 1000=0.46965 (USD); Mount: Surface Mount; Case/Package: SMD/SMT; Min Operating Temperature: -40°C; Max Operating Temperature: 85°C; Packaging: Tape and Reel; Frequency: 32.768kHz; Frequency Tolerance: 5ppm; Load Capacitance: 12.5pF; RoHS Compliant: Yes; ComponentLink1URL: C:\Users\Public\Documents\Altium\Projects\Cellar_Watchdog\Docs\Crystal\ECX-.327-CDX-1293.pdf; ComponentLink1Description: Datasheet; Supplier 2: Mouser; Supplier Part Number 2: 520-ECX-.327CDX-1293; Supplier Part Number 1: XC2292CT-ND
footprint XTAL_ECX-.327-CDX-1293 (CRYSTAL 32.768KHZ 12.5PF 2-SMD)
pins: 1 In/Out (io), 2 Out/In (io)

## XTAL_40.000MHz-10pF_4-SMD
designator Y?, comment ECS-400-10-37B2-CKY-TR
40 MHz ±10ppm Crystal 10pF 40 Ohms 4-SMD, No Lead; Manufacturer: ECS International; Frequency: 40.000 MHz; Supplier 1: Digi-Key; Manufacturer Part Number: ECS-400-10-37B2-CKY-TR; RoHS: No; Category: Uncategorized; Stock 1: 33639; Pricing 1: 1=0.45000, 10=0.37900, 50=0.34080, 100=0.30300, 500=0.28784, 1000=0.24240 (USD); Supplier 2: Mouser; Supplier Part Number 2: 520-400-10-37B2CKYTR; Supplier Part Number 1: 50-ECS-400-10-37B2-CKY-TRCT-ND; ComponentLink1Description: Datasheet; ComponentLink1URL: C:\Users\Public\Documents\Altium\Projects\Cellar_Watchdog\Docs\Crystal\ECX-1637B2.pdf
footprint XTAL_ECS-400-10-37B2 (CRYSTAL 40.0000MHZ 10PF 4-SMD)
pins: 1 In/Out (io), 2 GND (power) "Ground", 3 Out/In (io), 4 GND (power) "Ground"

## XTAL_50.000MHz-10pF_4-SMD
designator Y?, comment ECS-500-10-33-RTN-TR
50 MHz ±15ppm Crystal 10pF 40 Ohms 4-SMD, No Lead; Manufacturer: ECS International; Frequency: 50MHz; Frequency Stability: 20ppm; ESR (Equivalent Series Resistance): 40R; Supplier 1: Digi-Key; Manufacturer Part Number: ECS-500-10-33-RTN-TR; RoHS: Yes; Stock 1: 1111; Pricing 1: 1=0.56000, 10=0.46700, 50=0.42040, 100=0.37370, 500=0.35502 (USD); Mounting Technology: Surface Mount; Case/Package: SMD/SMT; Min Operating Temperature: -40°C; Max Operating Temperature: 85°C; Packaging: Tape and Reel; Frequency Tolerance: 15ppm; Load Capacitance: 10pF; RoHS Compliant: No; ComponentLink1URL: C:\Users\Public\Documents\Altium\Projects\Cellar_Watchdog\Docs\Crystal\ecx-32.pdf; ComponentLink1Description: Datasheet; Supplier 2: Mouser; Supplier Part Number 2: 520-500-10-33-RTNT; Supplier Part Number 1: XC2551CT-ND
footprint XTAL_ECS-500-10-33-RTN-TR (CRYSTAL 50.0000MHZ 10PF 4-SMD)
pins: 1 In/Out (io), 2 GND (power) "Ground", 3 Out/In (io), 4 GND (power) "Ground"